# EAGLE library part EFM8SB10F8G-A-CSP16 (library MF_IC_Digital)
Manufacturer Part #: EFM8SB10F8G-A-CSP16 Manufacturer: Silicon Labs Description: Sleepy Bee 8-bit Microcontrollers - MCU EFM8SB10 CSP16
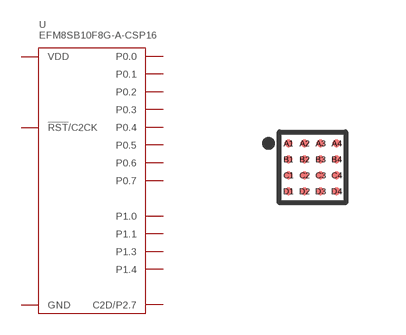
[diagram p14: symbol with the pads of EFM8SB10F8G-A-CSP16; footprint EFM8SB10F8G-A-CSP16]

Designator prefix U

## EFM8SB10F8G-A-CSP16 (HOUSEPART: NO; POPULATE: 1; URL: http://www.silabs.com/products/mcu/8-bit/efm8-sleepy-bee/pages/efm8-sleepy-bee.aspx)  [EFM8SB10F8G-A-CSP16]
A1  P0.7
A2  P0.5
A3  P0.4
A4  P0.0
B1  P1.0
B2  P0.3
B3  P0.2
B4  GND
C1  P1.3
C2  P0.6
C3  P0.1
C4  VDD
D1  P1.1
D2  P1.4
D3  !RST!/C2CK
D4  C2D/P2.7

## Footprint EFM8SB10F8G-A-CSP16 (pad centres in mm)
Description: Silicon Labs Sleepy Bee CSP16 Package.
smd 0.2 x 0.2: A1 -0.6,0.6; A2 -0.2,0.6; A3 0.2,0.6; A4 0.6,0.6; B1 -0.6,0.2; B2 -0.2,0.2; B3 0.2,0.2; B4 0.6,0.2; C1 -0.6,-0.2; C2 -0.2,-0.2; C3 0.2,-0.2; C4 0.6,-0.2; D1 -0.6,-0.6; D2 -0.2,-0.6; D3 0.2,-0.6; D4 0.6,-0.6